# EAGLE library part ATWINC1500-MR210PB1952-T (library 473)
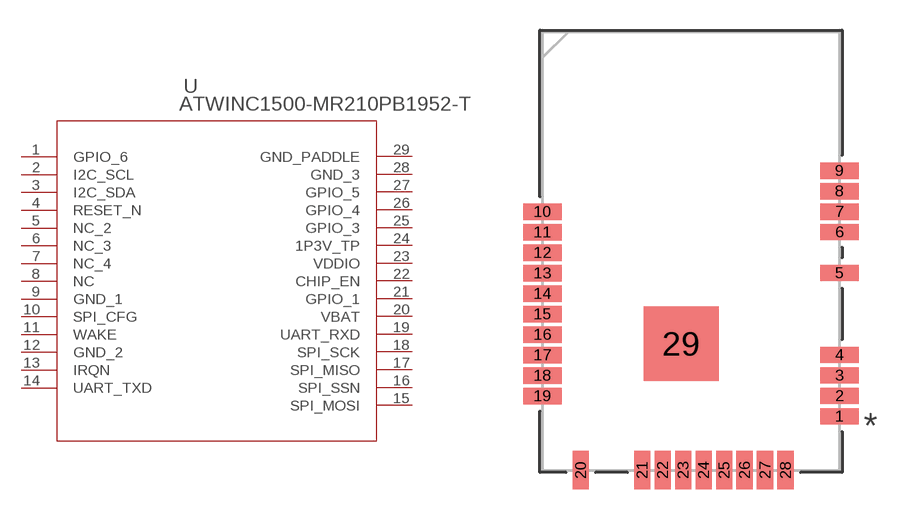
[diagram p2: symbol with the pads of ATWINC15X0-MR210_MCH; footprint ATWINC15X0-MR210_MCH]

Designator prefix U

## ATWINC1500-MR210PB1952-T (COPYRIGHT: Copyright (C) 2022 Ultra Librarian. All rights reserved.; DIGI-KEY_PART_NUMBER_1: ATWINC1500-MR210PB1952-TTR-ND; DIGI-KEY_PART_NUMBER_2: ATWINC1500-MR210PB1952-TCT-ND; DIGI-KEY_PART_NUMBER_3: ATWINC1500-MR210PB1952-TDKR-ND; MANUFACTURER_PART_NUMBER: ATWINC1500-MR210PB1952-T; MFR_NAME: Microchip)  [ATWINC15X0-MR210_MCH]
1  GPIO_6
2  I2C_SCL
3  I2C_SDA
4  RESET_N  in
5  NC_2  nc
6  NC_3  nc
7  NC_4  nc
8  NC  nc
9  GND_1  pas
10  SPI_CFG  in
11  WAKE  in
12  GND_2  pas
13  IRQN  out
14  UART_TXD  out
15  SPI_MOSI  in
16  SPI_SSN  in
17  SPI_MISO  out
18  SPI_SCK  in
19  UART_RXD  in
20  VBAT  pwr
21  GPIO_1
22  CHIP_EN  in
23  VDDIO  pwr
24  1P3V_TP  pas
25  GPIO_3
26  GPIO_4
27  GPIO_5
28  GND_3  pas
29  GND_PADDLE  pas

## Footprint ATWINC15X0-MR210_MCH (pad centres in mm)
smd 1.905 x 0.813: 1 7.365,-8.19; 2 7.365,-7.174; 3 7.365,-6.158; 4 7.365,-5.142; 5 7.365,-1.078; 6 7.365,0.954; 7 7.365,1.97; 8 7.365,2.986; 9 7.365,4.002; 10 -7.365,1.964; 11 -7.365,0.948; 12 -7.365,-0.068; 13 -7.365,-1.084; 14 -7.365,-2.1; 15 -7.365,-3.116; 16 -7.365,-4.132; 17 -7.365,-5.148; 18 -7.365,-6.164; 19 -7.365,-7.18
smd 0.813 x 1.905: 20 -5.465,-10.86; 21 -2.417,-10.86; 22 -1.401,-10.86; 23 -0.385,-10.86; 24 0.631,-10.86; 25 1.647,-10.86; 26 2.663,-10.86; 27 3.679,-10.86; 28 4.695,-10.86
smd 3.708 x 3.708: 29 -0.485,-4.59